# Altium schematic symbol library TSC2004IR.SchLib: 1 symbol
Pins are listed as number, name and electrical type; pins without a type are passive.

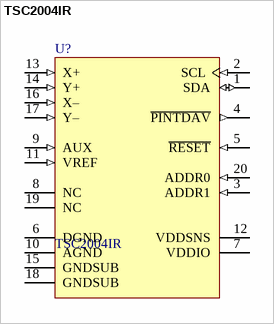
[diagram p0: symbol TSC2004IR]

## TSC2004IR
designator U?
4-Wire Resistive Touch Screen Controller; Published: 6-Oct-2005; DatasheetVersion: Jan-2005; PackageVersion: Feb-1999; PackageReference: PW016; Publisher: Altium Limited; PackageDescription: Shrink Small Outline; 16 Leads; Body Width 4.4 mm; Pitch 0.65 mm; ComponentLink1Description: Manufacturer Link; ComponentLink1URL: http://focus.ti.com/docs/prod/folders/print/tsc2003.html; ComponentLink2Description: Datasheet; ComponentLink2URL: http://focus.ti.com/lit/ds/symlink/tcs2003.pdf
footprint RGW20_M (20-Pin Plastic Quad Flat No-Lead 0.65 mm Pitch, IPC Low Density)
pins: 1 SDA (io), 2 SCL (in), 3 ADDR1 (in), 4 ~{PINTDAV} (out), 5 ~{RESET} (in), 6 DGND (power), 7 VDDIO (power), 8 NC, 9 AUX (in), 10 AGND (power), 11 VREF (in), 12 VDDSNS (power), 13 X+ (in), 14 Y+ (in), 15 GNDSUB (power), 16 X– (in), 17 Y– (in), 18 GNDSUB (power), 19 NC, 20 ADDR0 (in)